# EAGLE library part AXK6F14347YG (library Deegou_Connector)
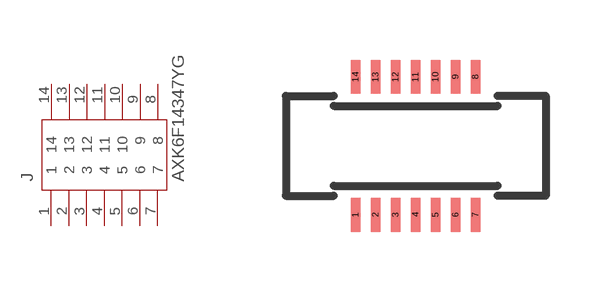
[diagram p36: symbol with the pads of AXK6F14347YG; footprint AXK6F14347YG]

Designator prefix J

## AXK6F14347YG  [AXK6F14347YG]
1  1
2  2
3  3
4  4
5  5
6  6
7  7
8  8
9  9
10  10
11  11
12  12
13  13
14  14

## Footprint AXK6F14347YG (pad centres in mm)
smd 0.23 x 0.85: 1 -1.5,-1.725; 2 -1,-1.725; 3 -0.5,-1.725; 4 0,-1.725; 5 0.5,-1.725; 6 1,-1.725; 7 1.5,-1.725; 8 1.5,1.725; 9 1,1.725; 10 0.5,1.725; 11 0,1.725; 12 -0.5,1.725; 13 -1,1.725; 14 -1.5,1.725